# EAGLE library part LSM6DS33+LIS3MDL (library LSM6DS33LIS3MDL)
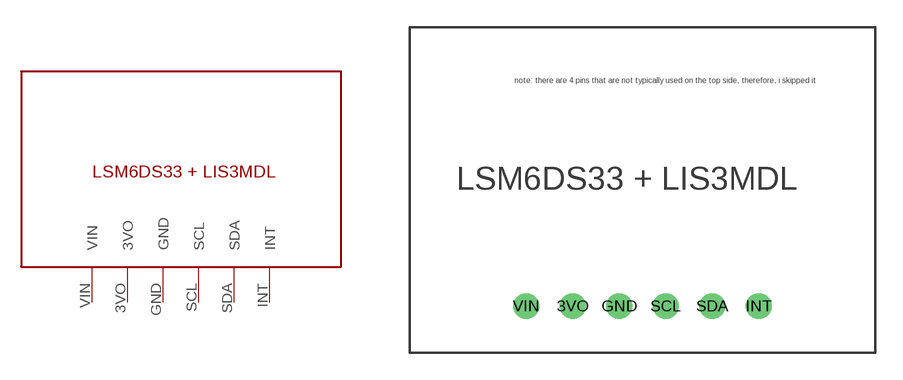
[diagram p0: symbol with the pads of LSM6DS33+LIS3MDL; footprint LSM6DS33+LIS3MDL]

Designator prefix -

## LSM6DS33+LIS3MDL  [LSM6DS33+LIS3MDL]
3VO  3VO
GND  GND
INT  INT
SCL  SCL
SDA  SDA
VIN  VIN

## Footprint LSM6DS33+LIS3MDL (pad centres in mm)
drill 0.9: 3VO 8.89,2.54; GND 11.43,2.54; INT 19.05,2.54; SCL 13.97,2.54; SDA 16.51,2.54; VIN 6.35,2.54